# Altium footprint library WiirdFlex.PcbLib: 79 footprints (part 1 of 5)
Each footprint in its own frame and in the unit in brackets; x right, y up, seen from the top. Pads: shape width x height; smd on the part's side, far side on the other; paste and mask are expansions set on the pad; w line width, h text height; cw(c..) or ccw(c..) is an arc to the next point about the centre after c.
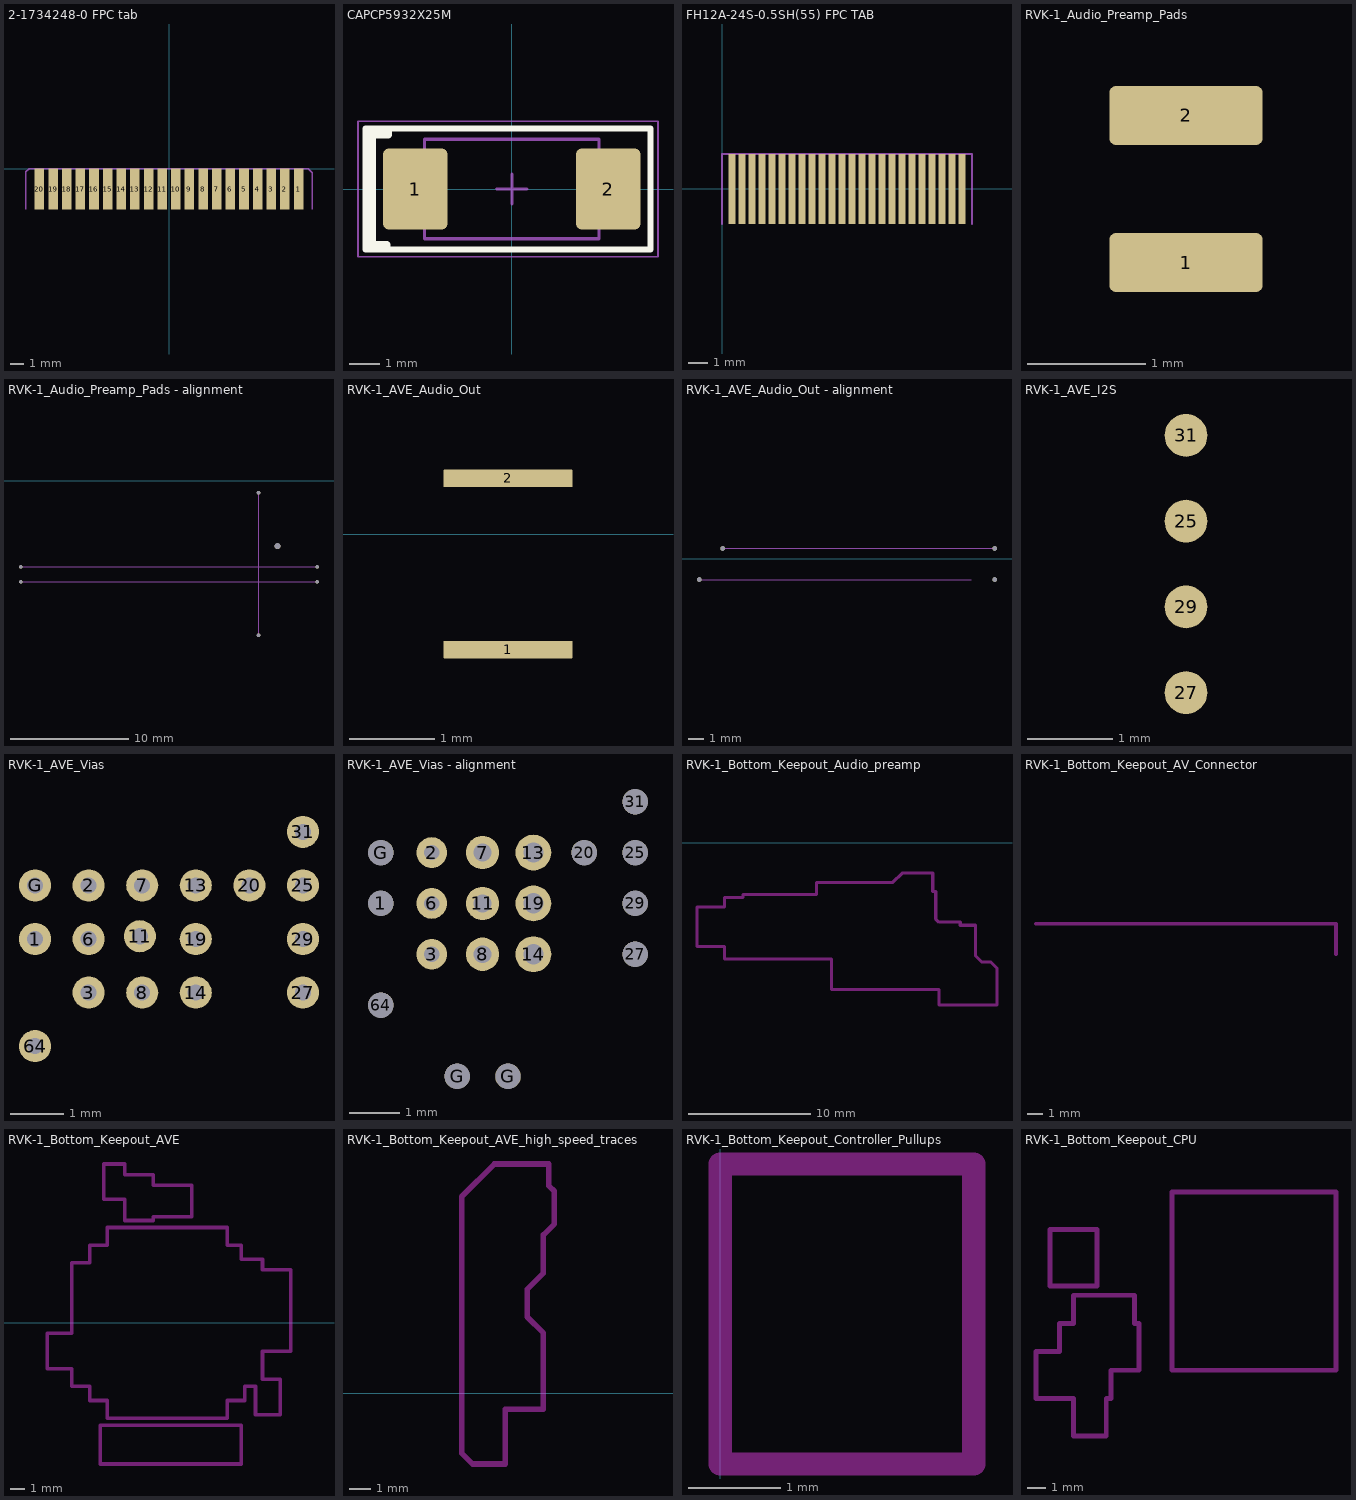
[diagram p0: the footprints below, top view; thin cyan lines are the x and y axes]

## 2-1734248-0 FPC tab [mm] "FPC tab to mate with TE Connectivity 2-1734248-0"
pads (20):
  rect 0.7x3 smd: 1(9.5,-1.5) 2(8.5,-1.5) 3(7.5,-1.5) 4(6.5,-1.5) 5(5.5,-1.5) 6(4.5,-1.5) 7(3.5,-1.5) 8(2.5,-1.5) 9(1.5,-1.5) 10(0.5,-1.5) 11(-0.5,-1.5) 12(-1.5,-1.5) 13(-2.5,-1.5) 14(-3.5,-1.5) 15(-4.5,-1.5) 16(-5.5,-1.5) 17(-6.5,-1.5) 18(-7.5,-1.5) 19(-8.5,-1.5) 20(-9.5,-1.5)
Top Solder:
  region: 10.5,0.1 -10.5,0.1 -10.5,-3.1 10.5,-3.1
Mechanical 1:
  lines w0.1: -10.5,-3 -10.5,-0.25 -10.25,0 10.2,0 10.5,-0.3 10.5,-3

## CAPCP5932X25M [mm] "Chip Capacitor, 2-Leads, Body 5.90x3.25mm, IPC Low Density"
height 2.5
pads (2):
  rrect20% 2.15x2.7 smd: 1(-3.2,0) 2(3.2,0)
Top Overlay:
  lines w0.2: -4.725,-2 -4.725,2 ; -4.6,-2 -4.85,-2 -4.85,2 -4.6,2 ; -4.6,-2 4.6,-2 4.6,2 -4.6,2 ; -4.6,-2 -4.6,2
  lines w0.254: -4.575,-1.85 -4.15,-1.85 -4.15,-1.9 ; -4.55,1.8 -4.1,1.8 -4.1,1.906
Top Assembly:
  lines w0.1: -2.9,-1.65 -2.9,1.65 2.9,1.65 2.9,-1.65 -2.9,-1.65
Top Courtyard:
  lines w0.05: -5.1,-2.25 -5.1,2.25 4.85,2.25 4.85,-2.25 -5.1,-2.25
  lines w0.1: -0.5,0 0.5,0 ; 0,-0.5 0,0.5
3D body: height 2.5, standoff 0, extent -0.75,-1.65 0.75,1.65
3D body: height 2.5, standoff 0, extent 0.75,-1.65 2.9,1.65
3D body: height 2.5, standoff 0, extent -2.9,-1.65 -0.75,1.65

## FH12A-24S-0.5SH(55) FPC TAB [mm]
pads (24):
  rect 0.35x3.5 smd mask+0: 1(0.5,0) 2(1,0) 3(1.5,0) 4(2,0) 5(2.5,0) 6(3,0) 7(3.5,0) 8(4,0) 9(4.5,0) 10(5,0) 11(5.5,0) 12(6,0) 13(6.5,0) 14(7,0) 15(7.5,0) 16(8,0) 17(8.5,0) 18(9,0) 19(9.5,0) 20(10,0) 21(10.5,0) 22(11,0) 23(11.5,0) 24(12,0)
Top Solder:
  rectangle: 0,-1.75 12.5,1.75
Mechanical 1:
  lines w0.1: 0,-1.75 0,1.75 12.5,1.75 12.5,-1.75

## RVK-1_Audio_Preamp_Pads [mm]
pads (2):
  rrect20% 1.3x0.5 smd: 1(-33.6,-8.5) 2(-33.6,-7.25)

## RVK-1_Audio_Preamp_Pads - alignment [mm]
pads (7):
  round 0.3 hole 0.3 unplated: 1(-53,-8.5) 1(-32.95,-13) 1(-32.95,-1) 1(-28,-8.5) 2(-53,-7.25) 2(-28,-7.25)
  round 0.5 hole 0.5 unplated: G(-31.35,-5.5)
Mechanical 1:
  lines w0.05: -53,-8.5 -28,-8.5 ; -53,-7.25 -28,-7.25 ; -32.95,-13 -32.95,-1

## RVK-1_AVE_Audio_Out [mm]
pads (2):
  rrect2% 1.5x0.2 smd: 1(-8.75,-1.35) 2(-8.75,0.65)

## RVK-1_AVE_Audio_Out - alignment [mm]
pads (4):
  round 0.3 hole 0.3 unplated: 1(-24,-1.35) 1(-5,-1.35) 2(-22.5,0.65) 2(-5,0.65)
Mechanical 1:
  lines w0.05: -24,-1.35 -6.5,-1.35 ; -22.5,0.65 -5,0.65

## RVK-1_AVE_I2S [mm] "AVE I2S vias, see https://github.com/ikorb/gcvideo/blob/master/HDL/gcvideo_dvi/README-Wii.md"
pads (4):
  round 0.5 smd: 25(-19.5,13) 27(-19.5,11) 29(-19.5,12) 31(-19.5,14)

## RVK-1_AVE_Vias [mm]
pads (17):
  round 0.6 hole 0.3: 1(-24.5,11.9) 2(-23.5,12.9) 3(-23.5,10.9) 6(-23.5,11.9) 7(-22.5,12.9) 8(-22.5,10.9) 11(-22.544,11.951) 13(-21.5,12.9) 14(-21.5,10.9) 19(-21.5,11.9) 20(-20.5,12.9) 25(-19.5,12.9) 27(-19.5,10.9) 29(-19.5,11.9) 31(-19.5,13.9) 64(-24.5,9.9) G(-24.5,12.9)

## RVK-1_AVE_Vias - alignment [mm]
pads (19):
  round 0.5 hole 0.5 unplated: 1(-24.5,11.9) 20(-20.5,12.9) 25(-19.5,12.9) 27(-19.5,10.9) 29(-19.5,11.9) 31(-19.5,13.9) 64(-24.5,9.9) G(-24.5,12.9) G(-23,8.5) G(-22,8.5)
  round 0.605 hole 0.3: 2(-23.5,12.9) 3(-23.5,10.9) 6(-23.5,11.9)
  round 0.655 hole 0.35: 7(-22.5,12.9) 8(-22.5,10.9) 11(-22.5,11.9)
  round 0.705 hole 0.4 unplated: 13(-21.5,12.9) 14(-21.5,10.9) 19(-21.5,11.9)

## RVK-1_Bottom_Keepout_Audio_preamp [mm] "keepout area for audio preamp and associated components"
Keep-Out Layer:
  lines w0.254: -51.75,-8.5 -51.75,-5.25 -49.5,-5.25 -49.5,-4.5 -48,-4.5 -48,-4.25 -42,-4.25 -42,-3.25 -36.25,-3.25 -35.75,-3.25 -35,-2.5 -32.5,-2.5 -32.5,-4 -32.25,-4 -32.25,-6 -32.25,-6.25 -32,-6.5 -30.25,-6.5 -30.25,-6.75 -29,-6.75 -29,-9.25 -28.5,-9.75 -27.75,-9.75 -27.25,-10.25 -27.25,-13.25 -32,-13.25 -32,-12 -40.75,-12 -40.75,-9.5 -49.5,-9.5 -49.5,-8.5 -51.75,-8.5

## RVK-1_Bottom_Keepout_AV_Connector [mm] "keepout area for AV connector"
Keep-Out Layer:
  lines w0.254: -63.75,-13 -44,-13 -44,-15

## RVK-1_Bottom_Keepout_AVE [mm] "Keepout area for AV Encoder and associated components"
Keep-Out Layer:
  lines w0.254: -23,-3.25 -23,-0.75 -21.25,-0.75 -21.25,4.25 -20,4.25 -20,5.5 -18.75,5.5 -18.75,6.75 -10.25,6.75 -10.25,5.5 -9.25,5.5 -9.25,4.5 -7.75,4.5 -7.75,3.75 -5.75,3.75 -5.75,-2 -7.75,-2 -7.75,-4 -6.5,-4 -6.5,-6.5 -8.25,-6.5 -8.25,-4.5 -9,-4.5 -9,-5.5 -10.25,-5.5 -10.25,-6.75 -18.75,-6.75 -18.75,-5.5 -20,-5.5 -20,-4.5 -21.25,-4.5 -21.25,-3.25 -23,-3.25 ; -19.25,-10 -19.25,-7.25 -9.25,-7.25 -9.25,-10 -19.25,-10 ; -19,8.75 -19,11.25 -17.5,11.25 -17.5,10.5 -15.5,10.5 -15.5,9.75 -12.75,9.75 -12.75,7.5 -15.5,7.5 -15.5,7.25 -17.5,7.25 -17.5,8.75 -19,8.75

## RVK-1_Bottom_Keepout_AVE_high_speed_traces [mm] "Keepout area showing location of AV high-speed traces"
Keep-Out Layer:
  lines w0.254: -25,-2.75 -25,9 -23.5,10.5 -21,10.5 -21,9.5 -20.75,9.25 -20.75,7.75 -21.25,7.25 -21.25,5.5 -22,4.75 -22,3.5 -21.25,2.75 -21.25,-0.75 -23,-0.75 -23,-3.25 -24.5,-3.25 -25,-2.75

## RVK-1_Bottom_Keepout_Controller_Pullups [mm] "Keepout area for GC Controller pull-up resistor array (RA1)"
Keep-Out Layer:
  lines w0.254: 0,16.5 0,19.75 2.75,19.75 2.75,16.5 0,16.5

## RVK-1_Bottom_Keepout_CPU [mm] "keepout area for various CPU-associated components (mostly power filtering)"
Keep-Out Layer:
  lines w0.254: -57,16 -55,16 -55,14 -53.25,14 -53.25,16 -53,16 -53,17.5 -51.5,17.5 -51.5,20 -51.75,20 -51.75,21.5 -55,21.5 -55,20 -55.75,20 -55.75,18.5 -57,18.5 -57,16 ; -56.25,22 -53.75,22 -53.75,25 -56.25,25 -56.25,22 ; -49.75,17.5 -49.75,27 -41,27 -41,17.5 -49.75,17.5